# Altium integrated library Arduino开发板 MINI款.IntLib: 19 symbols
Pins are listed as number, name and electrical type; pins without a type are passive.

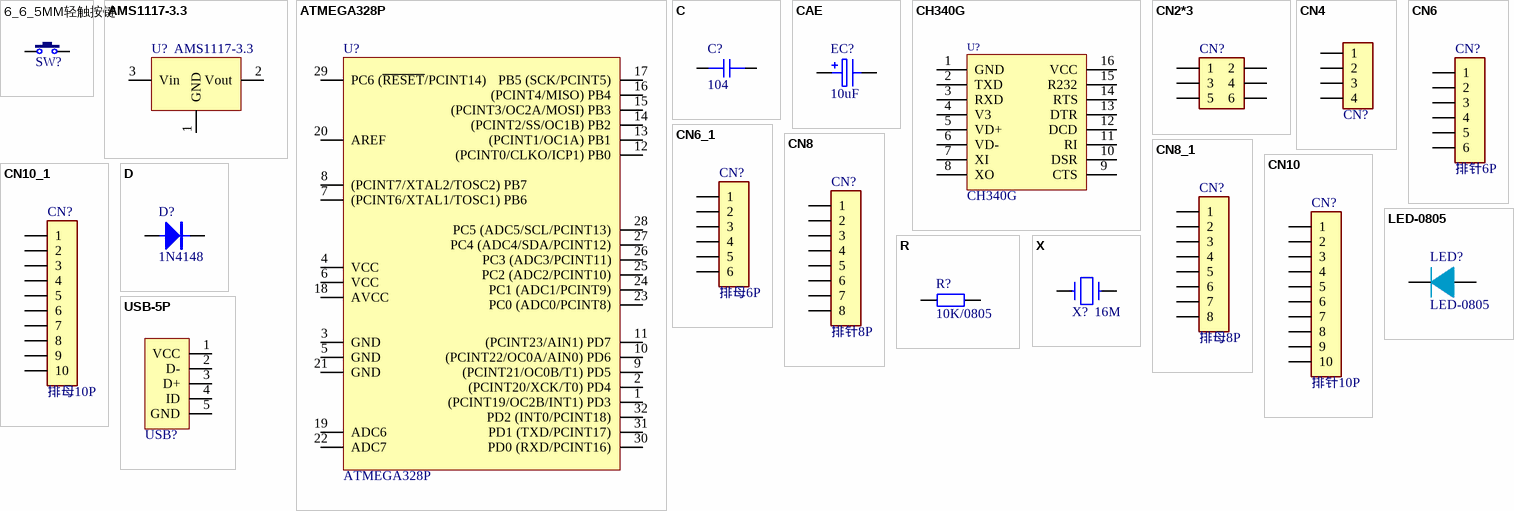
[diagram p0: symbols 6_6_5MM轻触按键 to X]

## 6_6_5MM轻触按键
designator SW?  (value not drawn)
footprint TSW SMD-6*6*5 (6*6*5mm           淘宝ID:黄晶宝石)
pins: 1, 3

## AMS1117-3.3
designator U?
footprint SOT-223 (封装库来自淘宝卖家 ID：黄晶宝石)
pins: 1 GND, 2 Vout, 3 Vin

## ATMEGA328P
designator U?
footprint LQFP32 7X7_M (32脚，体宽7x7mm，脚距0.8mm     淘宝ID:黄晶宝石)
pins: 1 (PCINT19/OC2B/INT1) PD3, 2 (PCINT20/XCK/T0) PD4, 3 GND, 4 VCC, 5 GND, 6 VCC, 7 (PCINT6/XTAL1/TOSC1) PB6, 8 (PCINT7/XTAL2/TOSC2) PB7, 9 (PCINT21/OC0B/T1) PD5, 10 (PCINT22/OC0A/AIN0) PD6, 11 (PCINT23/AIN1) PD7, 12 (PCINT0/CLKO/ICP1) PB0, 13 (PCINT1/OC1A) PB1, 14 (PCINT2/SS/OC1B) PB2, 15 (PCINT3/OC2A/MOSI) PB3, 16 (PCINT4/MISO) PB4, 17 PB5 (SCK/PCINT5), 18 AVCC, 19 ADC6, 20 AREF, 21 GND, 22 ADC7, 23 PC0 (ADC0/PCINT8), 24 PC1 (ADC1/PCINT9), 25 PC2 (ADC2/PCINT10), 26 PC3 (ADC3/PCINT11), 27 PC4 (ADC4/SDA/PCINT12), 28 PC5 (ADC5/SCL/PCINT13), 29 PC6 (~{RESET}/PCINT14), 30 PD0 (RXD/PCINT16), 31 PD1 (TXD/PCINT17), 32 PD2 (INT0/PCINT18)

## C
designator C?, comment 104
C
footprint C1206-FS
footprint C10-AI
footprint CC2.54
footprint CC5.08
footprint CC7.5
footprint C1210
footprint C3528
footprint CC2.54-AI
footprint CC5.08-AI
footprint S-C8-AI
footprint S-C10-AI
footprint S-CC2.54
footprint S-CC2.54-AI
footprint S-CC5.08
footprint S-CC5.08-AI
footprint S-CC7.5
footprint C0805-SMT
footprint C0603-SMT
footprint C0805-FS
footprint C0805-SMT
footprint C1206-FS
footprint C1206-SMT
pins: 1, 2

## CAE
designator EC?, comment 10uF
EA
footprint CAE2.54-Φ5-AI
footprint CAE2.3-5
footprint CAE2.5-5
footprint CAE2.5-5*11-W
footprint CAE2.5-6.5
footprint CAE2.5-6.5*11-W
footprint CAE3.5-8.5
footprint CAE3.5-8.5*12-W
footprint CAE5-10.5
footprint CAE5-10.5*16-W
footprint CAE5-13
footprint CAE7.5-17
footprint CAE7.5-17*26-W
footprint CAE7.5-19
footprint CAE10-22
footprint CAE2.5-5-AI
footprint CAE2.5-6.5-AI
footprint CAE3.5-8.5-AI
footprint CAE5-10.5-AI
footprint S-CAE2.0-5
footprint S-CAE2.3-5
footprint S-CAE2.5-5
footprint S-CAE2.5-5*11-W
footprint S-CAE2.5-5-AI
footprint S-CAE2.5-6.5
footprint S-CAE2.5-6.5*11-W
footprint S-CAE2.5-6.5-AI
footprint S-CAE3.5-8.5
footprint S-CAE3.5-8.5*12-W
footprint S-CAE5-10.5
footprint S-CAE3.5-8.5-AI
footprint S-CAE5-10.5*16-W
footprint S-CAE5-10.5-AI
footprint S-CAE5-13
footprint S-CAE7.5-17
footprint S-CAE7.5-17*26-W
footprint S-CAE7.5-19
footprint S-CAE10-22
pins: 1, 2

## CH340G
designator U?
footprint IC-DIP16
footprint IC-DIP16-8.8
footprint IC-SOP16-1.27-FS
footprint IC-SOP16-1.27-SMT
pins: 1 GND, 2 TXD, 3 RXD, 4 V3, 5 VD+, 6 VD-, 7 XI, 8 XO, 9 CTS, 10 DSR, 11 RI, 12 DCD, 13 DTR, 14 RTS, 15 R232, 16 VCC

## CN2*3
designator CN?  (value not drawn)
footprint sip2*3
pins: 1, 2, 3, 4, 5, 6

## CN4
designator CN?  (value not drawn)
4P-SOCKET
footprint sip4
footprint CN-JC2.54-4P
footprint CN-PH2.0-4P
footprint CN-PH2.0-4P-W
footprint CN-VH3.96-4P
footprint CN-VH7.92-4P
footprint CN-XH2.54-4P
footprint CN-XH2.54-4P-W
footprint CN-XH2.54-4P-W-1
footprint S-CN-JC2.0-4P
footprint S-CN-JC2.54-4P
footprint S-CN-PH2.0-4P
footprint S-CN-PH2.0-4P-W
footprint S-CN-VH3.96-4P
footprint S-CN-VH7.92-4P
footprint S-CN-XH2.54-4P
footprint S-CN-XH2.54-4P-W
footprint S-CN-XH2.54-4P-W-1
pins: 1, 2, 3, 4

## CN6
designator CN?, comment 排针6P
6P-SOCKET
footprint sip6
footprint CN-JC2.54-6P
footprint CN-PH2.0-6P
footprint CN-PH2.0-6P-W
footprint CN-VH3.96-6P
footprint CN-XH2.54-6P
footprint CN-XH2.54-6P-W
footprint CN-XH2.54-6P-W-1
footprint S-CN-JC2.0-6P
footprint S-CN-JC2.54-6P
footprint S-CN-PH2.0-6P
footprint S-CN-PH2.0-6P-W
footprint S-CN-VH3.96-6P
footprint S-CN-XH2.54-6P-W
footprint S-CN-XH2.54-6P
footprint S-CN-XH2.54-6P-W-1
pins: 1, 2, 3, 4, 5, 6

## CN6_1
designator CN?, comment 排母6P
6P-SOCKET
footprint HDR2.54-M-LI-6P (排母，6脚  淘宝ID:黄晶宝石   店铺网址:https://shop463601444.taobao.com)
footprint CN-JC2.54-6P
footprint CN-PH2.0-6P
footprint CN-PH2.0-6P-W
footprint CN-VH3.96-6P
footprint CN-XH2.54-6P
footprint CN-XH2.54-6P-W
footprint CN-XH2.54-6P-W-1
footprint S-CN-JC2.0-6P
footprint S-CN-JC2.54-6P
footprint S-CN-PH2.0-6P
footprint S-CN-PH2.0-6P-W
footprint S-CN-VH3.96-6P
footprint S-CN-XH2.54-6P-W
footprint S-CN-XH2.54-6P
footprint S-CN-XH2.54-6P-W-1
pins: 1, 2, 3, 4, 5, 6

## CN8
designator CN?, comment 排针8P
8P-SOCKET
footprint sip8
footprint CN-JC2.54-8P
footprint CN-PH2.0-8P
footprint CN-PH2.0-8P-W
footprint CN-VH3.96-8P
footprint CN-XH2.54-8P
footprint CN-XH2.54-8P-W
footprint CN-XH2.54-8P-W-1
footprint S-CN-JC2.0-8P
footprint S-CN-JC2.54-8P
footprint S-CN-PH2.0-8P
footprint S-CN-PH2.0-8P-W
footprint S-CN-XH2.54-8P
footprint S-CN-VH3.96-8P
footprint S-CN-XH2.54-8P-W
footprint S-CN-XH2.54-8P-W-1
pins: 1, 2, 3, 4, 5, 6, 7, 8

## CN8_1
designator CN?, comment 排母8P
8P-SOCKET
footprint HDR2.54-M-LI-8P (排母，8脚)
footprint CN-JC2.54-8P
footprint CN-PH2.0-8P
footprint CN-PH2.0-8P-W
footprint CN-VH3.96-8P
footprint CN-XH2.54-8P
footprint CN-XH2.54-8P-W
footprint CN-XH2.54-8P-W-1
footprint S-CN-JC2.0-8P
footprint S-CN-JC2.54-8P
footprint S-CN-PH2.0-8P
footprint S-CN-PH2.0-8P-W
footprint S-CN-XH2.54-8P
footprint S-CN-VH3.96-8P
footprint S-CN-XH2.54-8P-W
footprint S-CN-XH2.54-8P-W-1
pins: 1, 2, 3, 4, 5, 6, 7, 8

## CN10
designator CN?, comment 排针10P
10P-SOCKET
footprint SIP10
footprint CN-VH3.96-10P
footprint CN-XH2.54-10P
footprint CN-XH2.54-10P-W-1
footprint S-CN-JC2.54-10P
footprint S-CN-VH3.96-10P
footprint S-CN-XH2.54-10P
footprint S-CN-XH2.54-10P-W-1
pins: 1, 2, 3, 4, 5, 6, 7, 8, 9, 10

## CN10_1
designator CN?, comment 排母10P
10P-SOCKET
footprint HDR2.54-M-LI-10P (排母，10脚)
footprint CN-VH3.96-10P
footprint CN-XH2.54-10P
footprint CN-XH2.54-10P-W-1
footprint S-CN-JC2.54-10P
footprint S-CN-VH3.96-10P
footprint S-CN-XH2.54-10P
footprint S-CN-XH2.54-10P-W-1
pins: 1, 2, 3, 4, 5, 6, 7, 8, 9, 10

## D
designator D?, comment 1N4148
DIODE
footprint SOD123/F(4148)-SMT
footprint D5-L
footprint D6-L
footprint D8-AI
footprint D10-4148-AI
footprint D10-AI
footprint D12.5-AI
footprint D15
footprint D17.5
footprint D20
footprint S-D4-L
footprint S-D5-L
footprint S-D6-L
footprint S-D8-AI
footprint S-D10-4148-AI
footprint S-D10-AI
footprint S-D12.5-AI
footprint S-D15
footprint S-D20
footprint S-D17.5
footprint D1206-FS
footprint D1206-SMT
footprint D3528-FS
footprint D3528-SMT
footprint D4148S-FS
footprint D4148S-SMT
pins: A, K

## LED-0805
designator LED?
LED_0805
footprint LED 0805R (红色0805LED                                       淘宝ID:黄晶宝石)
pins: 1, 2

## R
designator R?, comment 10K/0805
RES
footprint R0805-SMT
footprint R5-2W
footprint R5-1W
footprint R8-AI (1/8W/1/6W)
footprint R10-AI (1/4W)
footprint R12.5-AI (1/2W)
footprint R15 (1W)
footprint R17.5
footprint R20
footprint R25
footprint R28
footprint R2010
footprint S-R5-0.5W
footprint S-R5-1W
footprint S-R5-2W
footprint S-R8-AI (1/8W/1/6W)
footprint S-R10-AI (1/4W)
footprint S-R12.5-AI (1/2W)
footprint S-R15 (1W)
footprint S-R12.5-AI (1/2W)
footprint S-R20
footprint S-R25
footprint S-R28
footprint S-R28L
footprint R0603-FS
footprint R0603-SMT
footprint R0805-FS
footprint R0805-SMT
footprint R1206-FS
footprint R1206-SMT
pins: 1, 2

## USB-5P
designator USB?  (value not drawn)
footprint USB-MICRO_D (micro型USB ，6.7*7.5*2.5mm)
pins: 1 VCC, 2 D-, 3 D+, 4 ID, 5 GND

## X
designator X?, comment 16M
4M
footprint OSC HC-49S (封装库来自淘宝卖家 ID：黄晶宝石)
footprint XT5-2
footprint XT5-455E
footprint XT5-455E-W
footprint S-XT2.3-2-32768
footprint S-XT5-2
footprint S-XT5-455E
footprint S-XT5-455E-W
pins: 1, 2